# Altium schematic symbol library CMS-131304-SMT-TR.Schlib: 1 symbol
Pins are listed as number, name and electrical type; pins without a type are passive.

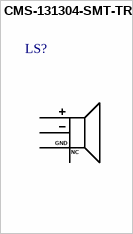
[diagram p0: symbol CMS-131304-SMT-TR]

## CMS-131304-SMT-TR
designator LS?
0.7W, Loud Speaker
pins: 1 +, 2 -, 3 GND, 4 GND
text: NC